# Altium footprint library LoraE5.PcbLib: 1 footprints
Each footprint in its own frame and in the unit in brackets; x right, y up, seen from the top. Pads: shape width x height; smd on the part's side, far side on the other; paste and mask are expansions set on the pad; w line width, h text height; cw(c..) or ccw(c..) is an arc to the next point about the centre after c.
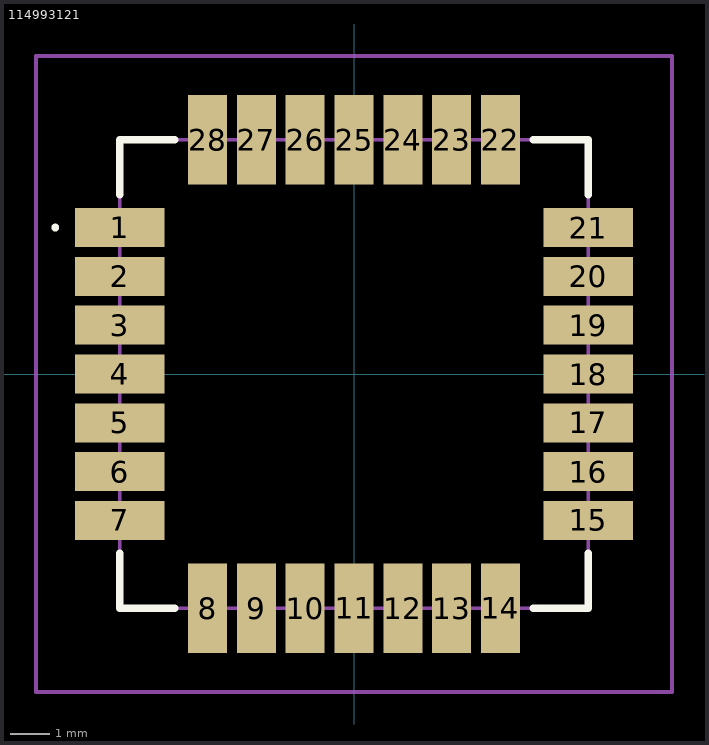
[diagram p0: the footprint, top view; thin cyan lines are the x and y axes]

## 114993121 [mm]
pads (28):
  rect 2.3x1 smd: 1(-6,3.75) 2(-6,2.5) 3(-6,1.25) 4(-6,0) 5(-6,-1.25) 6(-6,-2.5) 7(-6,-3.75) 15(6,-3.75) 16(6,-2.5) 17(6,-1.25) 18(6,0) 19(6,1.25) 20(6,2.5) 21(6,3.75)
  rect 1x2.3 smd: 8(-3.75,-6) 9(-2.5,-6) 10(-1.25,-6) 11(0,-6) 12(1.25,-6) 13(2.5,-6) 14(3.75,-6) 22(3.75,6) 23(2.5,6) 24(1.25,6) 25(0,6) 26(-1.25,6) 27(-2.5,6) 28(-3.75,6)
Top Overlay:
  lines w0.1: -7.7,3.75 ccw(c-7.65,3.75) -7.6,3.75 ccw(c-7.65,3.75) -7.7,3.75
  lines w0.2: -6,-4.6 -6,-6 -4.6,-6 ; -6,4.6 -6,6 -4.6,6 ; 4.6,-6 6,-6 6,-4.6 ; 4.6,6 6,6 6,4.6
Mechanical 15:
  lines w0.1: -6,-6 -6,6 6,6 6,-6 -6,-6
Mechanical 20:
  lines w0.1: -8.15,-8.15 -8.15,8.15 8.15,8.15 8.15,-8.15 -8.15,-8.15